# Altium schematic symbol library max44009.SchLib: 2 symbols
Pins are listed as number, name and electrical type; pins without a type are passive.

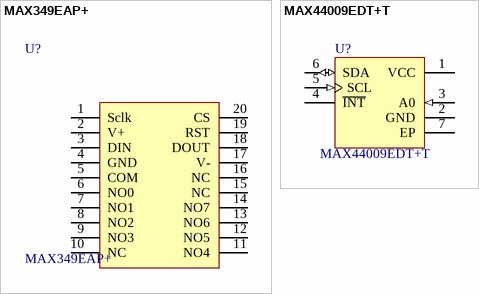
[diagram p0: symbols MAX349EAP+ to MAX44009EDT+T]

## MAX349EAP+
designator U?
IC MULTIPLEXER 8X1 20SSOP; Manufacturer Part Number: MAX349EAP+
footprint 21-0056C_20
pins: 1 Sclk, 2 V+, 3 DIN, 4 GND, 5 COM, 6 NO0, 7 NO1, 8 NO2, 9 NO3, 10 NC, 11 NO4, 12 NO5, 13 NO6, 14 NO7, 15 NC, 16 NC, 17 V-, 18 DOUT, 19 RST, 20 CS

## MAX44009EDT+T
designator U?
MAX44009 light sensor; Octopart Url: https://octopart.com/max44009edt%2Bt-maxim+integrated-44380498; Manufacturer Part Number: MAX44009EDT+T; Lifecycle Status: Active; OctopartID: e71f2cb0f32b38d8; Case/Package: 6-UDFN
footprint 21-0490D
footprint 21-0490D-L
footprint 21-0490D-M
pins: 1 VCC (power) "Power Supply", 2 GND (power) "Ground", 3 A0 (in) "Address Select. Pull high to select address 1011 011x or low to select address 1011 010x.", 4 ~{INT} (oc) "Interrupt Output. Use an external pullup resistor.", 5 SCL (in) "I2C Clock Bus", 6 SDA (io) "I2C Data Bus", 7 EP (power) "Exposed Pad. Connect EP to ground."